# Altium schematic symbol library 430450612.SchLib: 1 symbol
Pins are listed as number, name and electrical type; pins without a type are passive.

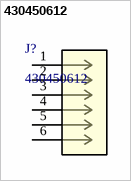
[diagram p0: symbol 430450612]

## 430450612
designator J?
Micro-Fit 3.0 Vertical Header, 3.00mm Pitch, Dual Row, 6 Circuits, with PCB Polarizing Peg, Tin, Glow-Wire Capable, Black; Manufacturer_Name: Molex Connector Corporation; Copyright: Copyright (C) 2026 Ultra Librarian. All rights reserved.; Manufacturer_Part_Number: 430450612; RefDes: RefDes; Type: Type
footprint CONN_SD-43045-005_06_MOL
pins: 1, 2, 3, 4, 5, 6